# Altium footprint library CONNECTOR.PcbLib: 181 footprints (part 12 of 12)
Each footprint in its own frame and in the unit in brackets; x right, y up, seen from the top. Pads: shape width x height; smd on the part's side, far side on the other; paste and mask are expansions set on the pad; w line width, h text height; cw(c..) or ccw(c..) is an arc to the next point about the centre after c.
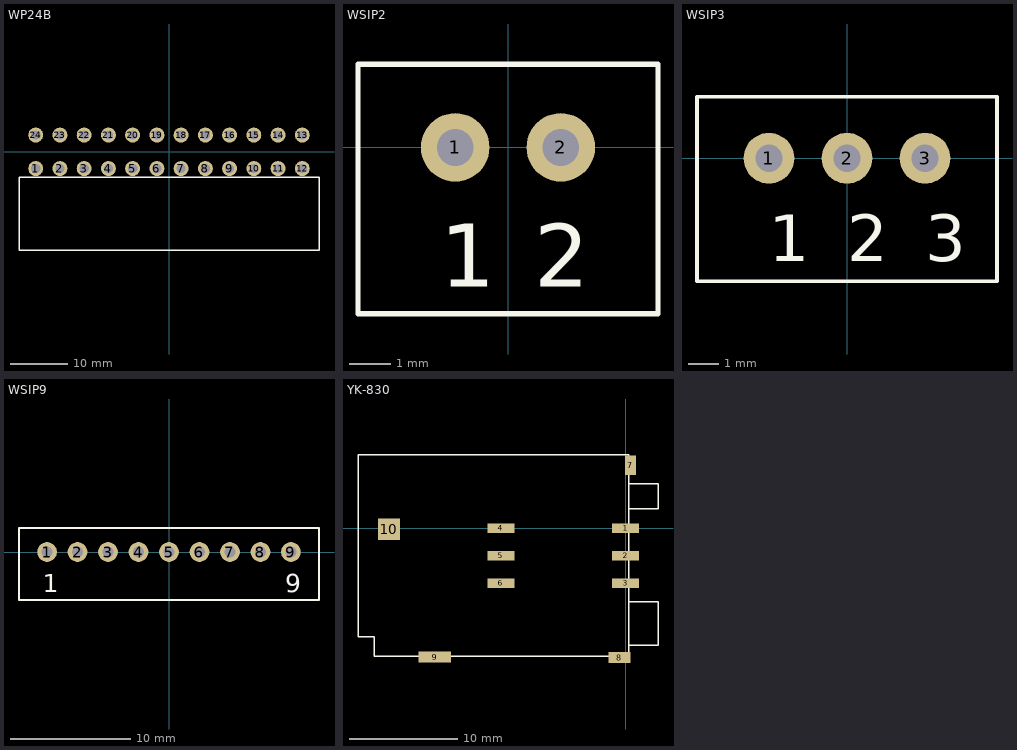
[diagram p11: the footprints below, top view; thin cyan lines are the x and y axes]

## WP24B [mm] "20 BEND PINS"
height 10
pads (24):
  round 2.6 hole 1.6: 1(-23.1,-2.9) 2(-18.9,-2.9) 3(-14.7,-2.9) 4(-10.5,-2.9) 5(-6.3,-2.9) 6(-2.1,-2.9) 7(2.1,-2.9) 8(6.3,-2.9) 9(10.5,-2.9) 10(14.7,-2.9) 11(18.9,-2.9) 12(23.1,-2.9) 13(23.1,2.9) 14(18.9,2.9) 15(14.7,2.9) 16(10.5,2.9) 17(6.3,2.9) 18(2.1,2.9) 19(-2.1,2.9) 20(-6.3,2.9) 21(-10.5,2.9) 22(-14.7,2.9) 23(-18.9,2.9) 24(-23.1,2.9)
Top Overlay:
  lines w0.254: -26,-17.1 26,-17.1 26,-4.4 -26,-4.4 -26,-17.1

## WSIP2 [mil] "WHITE PLASTIC SOCKET"
height 393.7
pads (2):
  round 65 hole 35: 1(-50,0) 2(50,0)
Top Overlay:
  lines w5: -142.13,-157.48 -142.13,78.74 142.13,78.74 142.13,-157.48 -142.13,-157.48
  text "2" at 25,-132 h60
  text "1" at -64,-132 h60

## WSIP3 [mil]
pads (3):
  round 65 hole 35: 1(-100,0) 2(0,0) 3(100,0)
Top Overlay:
  lines w5: 190,78.74 -192.13,78.74 -192.13,-157.48 192.13,-157.48 192.13,78.74
  text "2" at 0,-132.01 h60
  text "3" at 100,-132.01 h60
  text "1" at -100,-132.01 h60

## WSIP9 [mil] "WHITE PLASTICE SOCKET"
height 10
pads (9):
  round 65 hole 35: 1(-400,0) 2(-300,0) 3(-200,0) 4(-100,0) 5(0,0) 6(100,0) 7(200,0) 8(300,0) 9(400,0)
Top Overlay:
  lines w5: -492.13,-157.48 492.13,-157.48 492.13,78.74 -492.13,78.74 -492.13,-157.48
  text "1" at -414,-132 h60
  text "9" at 381,-132 h60

## YK-830 [mm] "SIM card"
height 2.32
pads (10):
  rect 2.5x0.9 smd: 1(0,0) 2(0,-2.54) 3(0,-5.08) 4(-11.5,0) 5(-11.5,-2.54) 6(-11.5,-5.08)
  rect 1x1.8 smd: 7(0.46,5.842)
  rect 2x1 smd: 8(-0.556,-11.938)
  rect 3x1 smd: 9(-17.6,-11.896)
  rect 2x2 smd: 10(-21.84,-0.074)
Top Overlay:
  lines w0.127: 0.3,-10.8 3,-10.8 3,-6.8 0.3,-6.8 ; 0.3,1.8 3,1.8 3,4.1 0.3,4.1 ; -24.7,-10 -23.2,-10 -23.2,-11.8 0.3,-11.8 0.3,4.328 0.3,6.8 -24.7,6.8 -24.7,-10